# Altium footprint library TE_1-826656-0.PcbLib: 3 footprints
Each footprint in its own frame and in the unit in brackets; x right, y up, seen from the top. Pads: shape width x height; smd on the part's side, far side on the other; paste and mask are expansions set on the pad; w line width, h text height; cw(c..) or ccw(c..) is an arc to the next point about the centre after c.
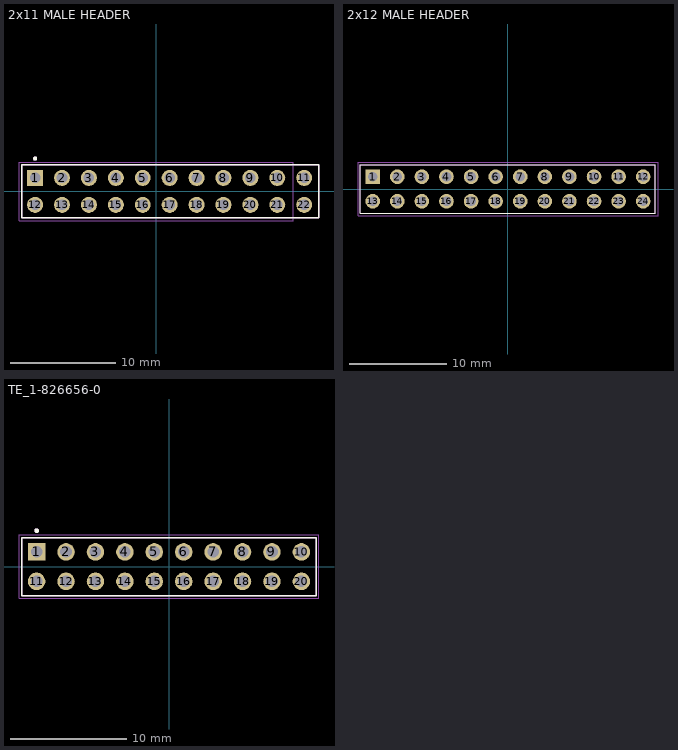
[diagram p0: the footprints below, top view; thin cyan lines are the x and y axes]

## 2x11 MALE HEADER [mm]
pads (22):
  rect 1.508x1.508 hole 1: 1(-11.43,1.27)
  round 1.508 hole 1: 2(-8.89,1.27) 3(-6.35,1.27) 4(-3.81,1.27) 5(-1.27,1.27) 6(1.27,1.27) 7(3.81,1.27) 8(6.35,1.27) 9(8.89,1.27) 10(11.43,1.27) 11(13.97,1.27) 12(-11.43,-1.27) 13(-8.89,-1.27) 14(-6.35,-1.27) 15(-3.81,-1.27) 16(-1.27,-1.27) 17(1.27,-1.27) 18(3.81,-1.27) 19(6.35,-1.27) 20(8.89,-1.27) 21(11.43,-1.27) 22(13.97,-1.27)
Top Overlay:
  circle w0.2: c-11.43,3.1 r0.1
  lines w0.127: -12.7,-2.5 -12.7,2.5 15.367,2.5 15.367,-2.5 -12.7,-2.5
Mechanical 13:
  circle w0.2: c-11.43,3.1 r0.1
  lines w0.127: -12.7,-2.5 -12.7,2.5 15.367,2.5 15.367,-2.5 -12.7,-2.5
Mechanical 15:
  lines w0.05: -12.95,-2.75 -12.95,2.75 12.95,2.75 12.95,-2.75 -12.95,-2.75
3D body "2x11 Male Pin Header.STEP": height 10.54, standoff -3, extent -12.67,-2.5 15.275,2.5

## 2x12 MALE HEADER [mm]
pads (24):
  rect 1.508x1.508 hole 1: 1(-13.97,1.27)
  round 1.508 hole 1: 2(-11.43,1.27) 3(-8.89,1.27) 4(-6.35,1.27) 5(-3.81,1.27) 6(-1.27,1.27) 7(1.27,1.27) 8(3.81,1.27) 9(6.35,1.27) 10(8.89,1.27) 11(11.43,1.27) 12(13.97,1.27) 13(-13.97,-1.27) 14(-11.43,-1.27) 15(-8.89,-1.27) 16(-6.35,-1.27) 17(-3.81,-1.27) 18(-1.27,-1.27) 19(1.27,-1.27) 20(3.81,-1.27) 21(6.35,-1.27) 22(8.89,-1.27) 23(11.43,-1.27) 24(13.97,-1.27)
Top Overlay:
  lines w0.127: -15.24,-2.5 15.24,-2.5 15.24,2.5 -15.24,2.5 -15.24,-2.5
Mechanical 13:
  lines w0.127: -15.24,-2.5 15.24,-2.5 15.24,2.5 -15.24,2.5 -15.24,-2.5
Mechanical 15:
  lines w0.05: -15.49,-2.75 15.5,-2.75 15.5,2.75 -15.49,2.75 -15.49,-2.75

## TE_1-826656-0 [mm]
pads (20):
  rect 1.508x1.508 hole 1: 1(-11.43,1.27)
  round 1.508 hole 1: 2(-8.89,1.27) 3(-6.35,1.27) 4(-3.81,1.27) 5(-1.27,1.27) 6(1.27,1.27) 7(3.81,1.27) 8(6.35,1.27) 9(8.89,1.27) 10(11.43,1.27) 11(-11.43,-1.27) 12(-8.89,-1.27) 13(-6.35,-1.27) 14(-3.81,-1.27) 15(-1.27,-1.27) 16(1.27,-1.27) 17(3.81,-1.27) 18(6.35,-1.27) 19(8.89,-1.27) 20(11.43,-1.27)
Top Overlay:
  circle w0.2: c-11.43,3.1 r0.1
  lines w0.127: -12.7,-2.5 -12.7,2.5 12.7,2.5 12.7,-2.5 -12.7,-2.5
Mechanical 13:
  circle w0.2: c-11.43,3.1 r0.1
  lines w0.127: -12.7,-2.5 -12.7,2.5 12.7,2.5 12.7,-2.5 -12.7,-2.5
Mechanical 15:
  lines w0.05: -12.95,-2.75 -12.95,2.75 12.95,2.75 12.95,-2.75 -12.95,-2.75
3D body "2x10 Male Pin Header.STEP": height 10.54, standoff -3, extent -12.71,-2.5 12.695,2.5